# EAGLE library part MTA09-100 (library AMP_MTA)
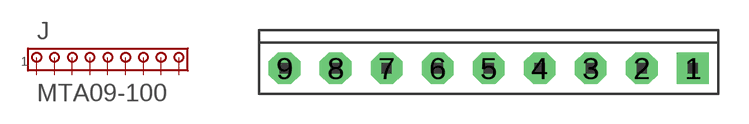
[diagram p3: symbol with the pads of 1X09MTA; footprint 1X09MTA]

Designator prefix J

## MTA09-100  [1X09MTA]
1  1
2  2
3  3
4  4
5  5
6  6
7  7
8  8
9  9

## Footprint 1X09MTA (pad centres in mm)
drill 1.016 pad 1.575 square: 1 10.16,0
drill 1.016 pad 1.575 octagon: 2 7.62,0; 3 5.08,0; 4 2.54,0; 5 0,0; 6 -2.54,0; 7 -5.08,0; 8 -7.62,0; 9 -10.16,0